# Altium footprint library Memory_Cards.PcbLib: 1 footprints
Each footprint in its own frame and in the unit in brackets; x right, y up, seen from the top. Pads: shape width x height; smd on the part's side, far side on the other; paste and mask are expansions set on the pad; w line width, h text height; cw(c..) or ccw(c..) is an arc to the next point about the centre after c.
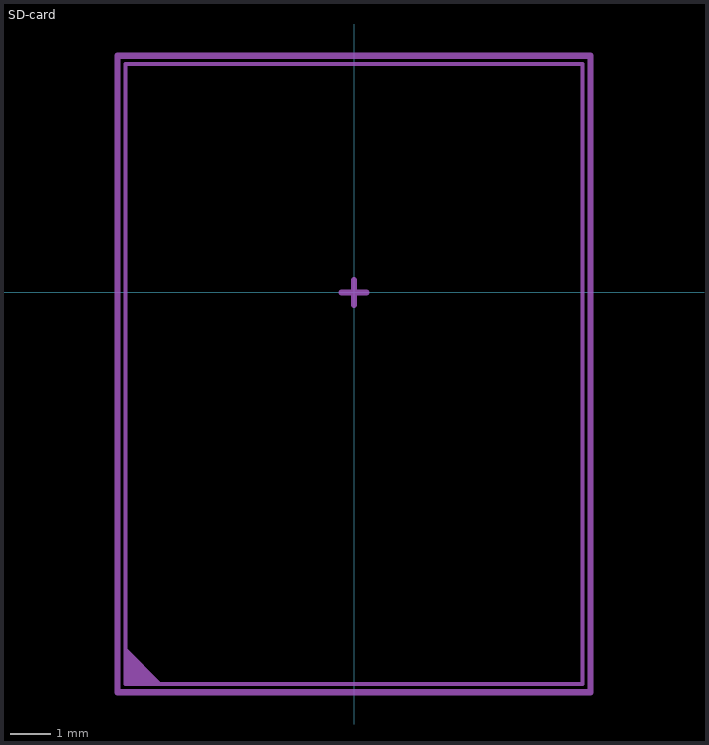
[diagram p0: the footprint, top view; thin cyan lines are the x and y axes]

## SD-card [mm]
Top Assembly:
  region: -5.6,-9.6 -5.6,-8.7 -4.7,-9.6
  lines w0.1: -5.6,-9.6 -5.6,5.6 5.6,5.6 5.6,-9.6 -5.6,-9.6
  text "'.Designator'" at -4.532,-0.333 h0.8
Top Courtyard (Mech6):
  lines w0.153: -0.3,0 0.3,0 ; 0,-0.3 0,0.3 ; -5.8,-9.8 -5.8,5.8 5.8,5.8 5.8,-9.8 -5.8,-9.8
3D body "User Library-SD card-3.step": height 1.41, standoff 0.25, extent -5.515,-9.52 5.515,5.52